# EAGLE library part MICRO_USB (library USB_Charger)
Digikey Part# 609-4618-1-ND
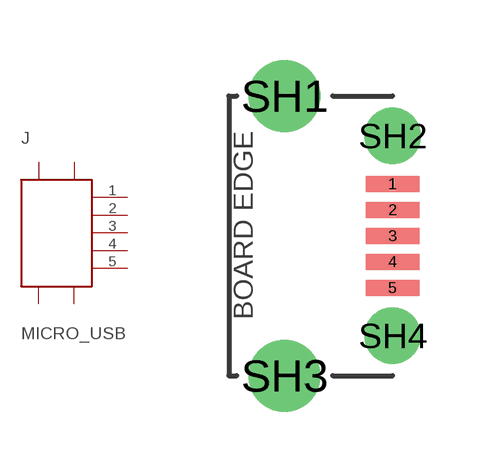
[diagram p2: symbol with the pads of MICRO_USB; footprint MICRO_USB]

Designator prefix J

## MICRO_USB  [MICRO_USB]
1  1
2  2
3  3
4  4
5  5
SH1  SH1
SH2  SH2
SH3  SH3
SH4  SH4

## Footprint MICRO_USB (pad centres in mm)
smd 1.35 x 0.4: 1 0,1.3; 2 0,0.65; 3 0,0; 4 0,-0.65; 5 0,-1.3
drill 1.2: SH1 -2.7,3.5; SH3 -2.7,-3.5
drill 0.9: SH2 0,2.5; SH4 0,-2.5